# Altium schematic symbol library #10Hole.SchLib: 1 symbol
Pins are listed as number, name and electrical type; pins without a type are passive.

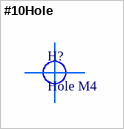
[diagram p0: symbol #10Hole]

## #10Hole
designator H?, comment Hole M4
footprint #10Hole